# Altium schematic symbol library vAnalog.SCHLIB: 150 symbols
Pins are listed as number, name and electrical type; pins without a type are passive.

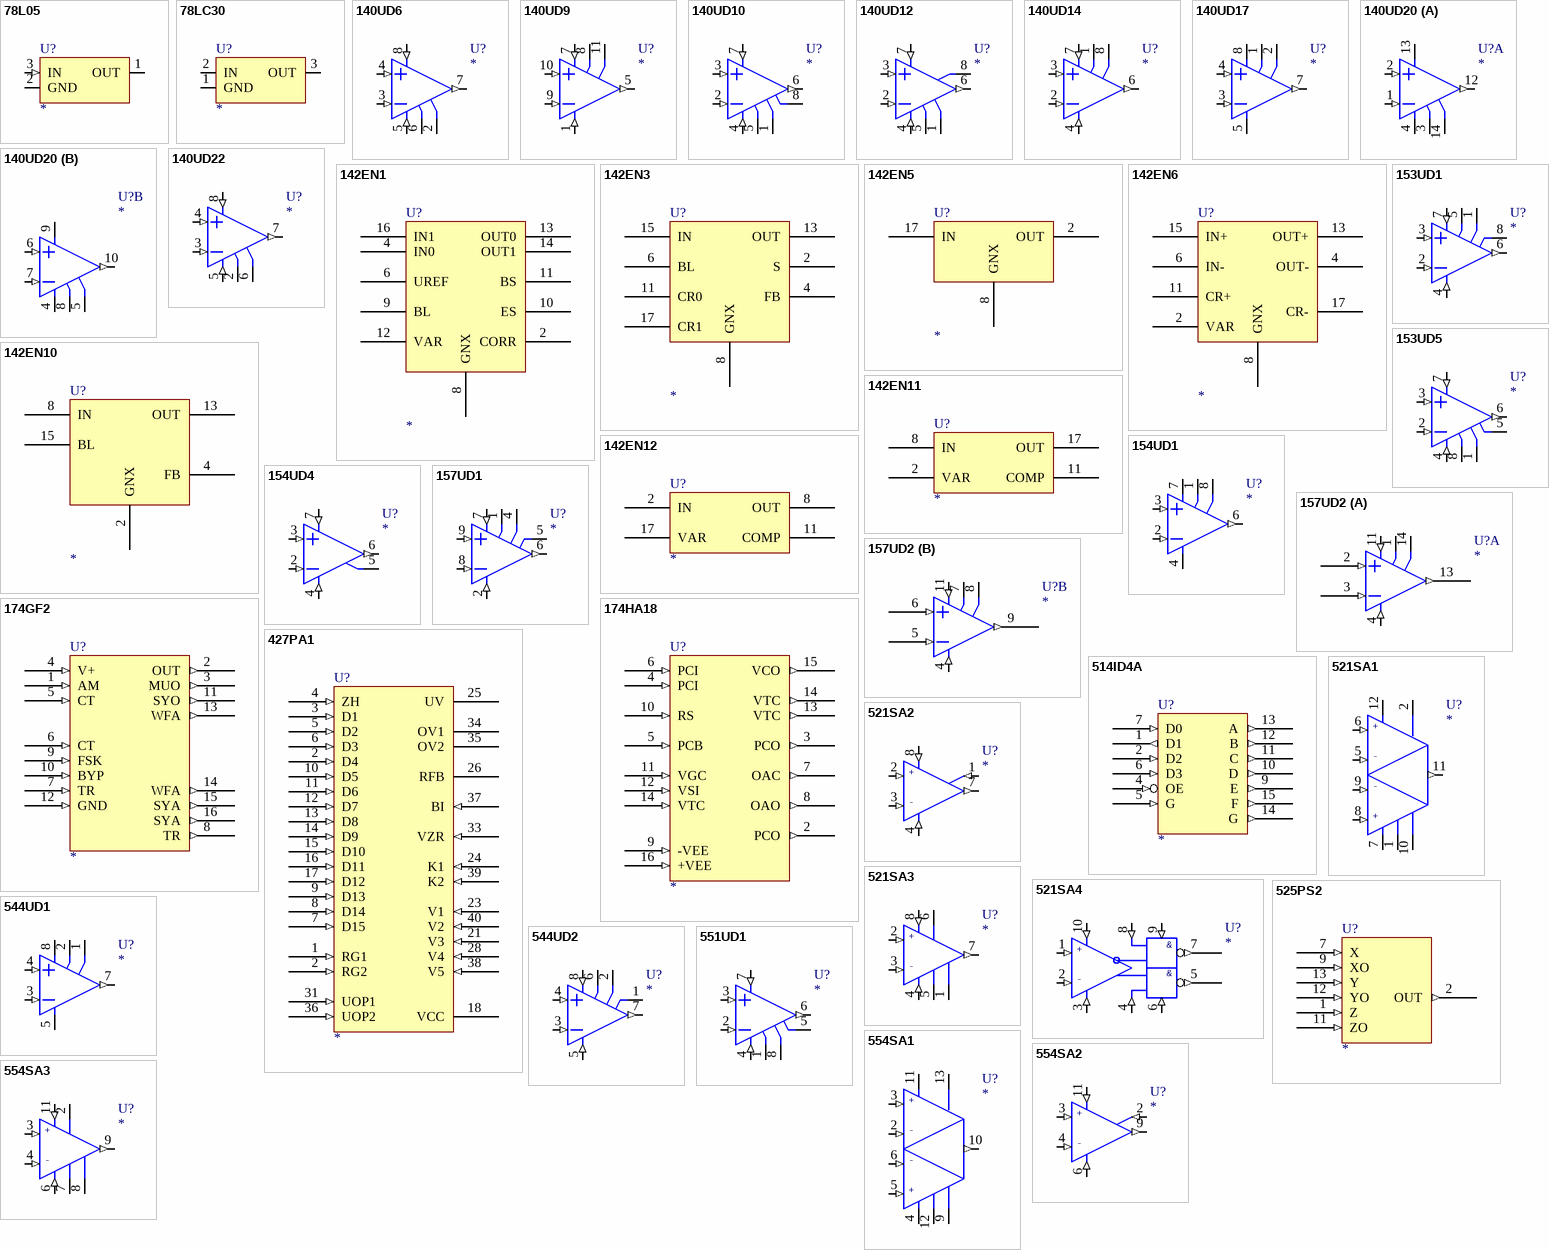
[diagram p0: symbols 78L05 to 554SA3]

## 78L05
designator U?
Text Field1: 60; Text Field2: 30
pins: 1 OUT, 2 GND (io), 3 IN (in)

## 78LC30
designator U?
Text Field1: 60; Text Field2: 30
pins: 1 GND, 2 IN, 3 OUT

## 140UD6
designator U?
Text Field1: 40; Text Field2: 40
pins: 2 BALANCE, 3 IN- (in), 4 IN+ (in), 5 E- (in), 6 BALANCE, 7 OUT (out), 8 E+ (in)

## 140UD9
designator U?
Text Field1: 40; Text Field2: 40
pins: 1 E- (in), 5 OUTPUT (out), 7 E+ (in), 8 COMPENSATION 1, 9 -INPUT (in), 10 +INPUT (in), 11 COMPENSATION 2

## 140UD10
designator U?
Text Field1: 40; Text Field2: 40
pins: 1 BAL/COMP, 2 -INPUT (in), 3 +INPUT (in), 4 E- (in), 5 BALANCE, 6 OUTPUT (out), 7 E+ (in), 8 COMPENS

## 140UD12
designator U?
Text Field1: 40; Text Field2: 40
pins: 1 BALANCE2, 2 -IN (in), 3 +IN (in), 4 E- (in), 5 BALANCE1, 6 OUT (out), 7 E+ (in), 8 I0

## 140UD14
designator U?
Text Field1: 40; Text Field2: 40
pins: 1 BALANCE1, 2 -IN (in), 3 +IN (in), 4 E- (in), 6 OUT (out), 7 E+ (in), 8 BALANCE2

## 140UD17
designator U?
Text Field1: 40; Text Field2: 40
pins: 1 BALANCE1, 2 BALANCE2, 3 -INPUT (in), 4 +INPUT (in), 5 E-, 7 OUTPUT (out), 8 E+

## 140UD20
designator U?
Text Field1: 40; Text Field2: 40
part A pins: 1 -INPUT (in), 2 +INPUT (in), 3 BALANCE1, 4 E-, 12 OUTPUT (out), 13 E+, 14 BALANCE2
part B pins: 4 E-, 5 BALANCE2, 6 +INPUT (in), 7 -INPUT (in), 8 BALANCE1, 9 E+, 10 OUTPUT (out)

## 140UD22
designator U?
Text Field1: 40; Text Field2: 40
pins: 2 BALANCE1, 3 -INPUT (in), 4 +INPUT (in), 5 E- (in), 6 BALANCE2, 7 OUTPUT (out), 8 E+ (in)

## 142EN1
designator U?
Text Field1: 80; Text Field2: 100
pins: 2 CORR, 4 IN0, 6 UREF, 8 GNX, 9 BL, 10 ES, 11 BS, 12 VAR, 13 OUT0, 14 OUT1, 16 IN1

## 142EN3
designator U?
Text Field1: 80; Text Field2: 80
pins: 2 S, 4 FB, 6 BL, 8 GNX, 11 CR0, 13 OUT, 15 IN, 17 CR1

## 142EN5
designator U?
Text Field1: 80; Text Field2: 40
pins: 2 OUT, 8 GNX, 17 IN

## 142EN6
designator U?
Text Field1: 80; Text Field2: 80
pins: 2 VAR, 4 OUT-, 6 IN-, 8 GNX, 11 CR+, 13 OUT+, 15 IN+, 17 CR-

## 142EN10
designator U?
Text Field1: 80; Text Field2: 70
pins: 2 GNX, 4 FB, 8 IN, 13 OUT, 15 BL

## 142EN11
designator U?
Text Field1: 80; Text Field2: 40
pins: 2 VAR, 8 IN, 11 COMP, 17 OUT

## 142EN12
designator U?
Text Field1: 80; Text Field2: 40
pins: 2 IN, 8 OUT, 11 COMP, 17 VAR

## 153UD1
designator U?
Text Field1: 40; Text Field2: 40
pins: 1 BAL/CORR, 2 IN- (in), 3 IN+ (in), 4 E- (in), 5 BALANCE, 6 OUT (out), 7 E+ (in), 8 CORR

## 153UD5
designator U?
Text Field1: 40; Text Field2: 40
pins: 1 BAL/CORR, 2 IN- (in), 3 IN+ (in), 4 E- (in), 5 CORR, 6 OUT (out), 7 E+ (in), 8 BALANCE

## 154UD1
designator U?
Text Field1: 40; Text Field2: 40
pins: 1 BALANCE1, 2 IN- (in), 3 IN+ (in), 4 E-, 6 OUT (out), 7 E+, 8 BALANCE2

## 154UD4
designator U?
Text Field1: 40; Text Field2: 40
pins: 2 IN- (in), 3 IN+ (in), 4 E- (in), 5 CORR, 6 OUT (out), 7 E+ (in)

## 157UD1
designator U?
Text Field1: 40; Text Field2: 40
pins: 1 CORR1, 2 E- (in), 4 CORR2, 5 CORR3, 6 OUT (out), 7 E+ (in), 8 IN- (in), 9 IN+ (in)

## 157UD2
designator U?
Text Field1: 40; Text Field2: 40
part A pins: 1 COMPENSATION 1, 2 +INPUT (in), 3 -INPUT (in), 4 E- (in), 11 E+ (in), 13 OUTPUT (out), 14 COMPENSATION 2
part B pins: 4 E- (in), 5 -INPUT (in), 6 +INPUT (in), 7 COMPENSATION 1, 8 COMPENSATION 2, 9 OUTPUT (out), 11 E+ (in)

## 174GF2
designator U?
Text Field1: 80; Text Field2: 130
pins: 1 AM (in), 2 OUT (out), 3 MUO (out), 4 V+ (in), 5 CT (in), 6 CT (in), 7 TR (in), 8 TR (out), 9 FSK (in), 10 BYP (in), 11 SYO (out), 12 GND (in), 13 WFA (out), 14 WFA (out), 15 SYA (out), 16 SYA (out)

## 174HA18
designator U?
Text Field1: 80; Text Field2: 150
pins: 2 PCO (out), 3 PCO (out), 4 PCI (in), 5 PCB (in), 6 PCI (in), 7 OAC (out), 8 OAO (out), 9 -VEE (in), 10 RS (in), 11 VGC (in), 12 VSI (in), 13 VTC (out), 14 VTC (in), 14 VTC (out), 15 VCO (out), 16 +VEE (in)

## 427PA1
designator U?
Text Field1: 80; Text Field2: 230
pins: 1 RG1 (in), 2 D4 (in), 2 RG2 (in), 3 D1 (in), 4 ZH (in), 5 D2 (in), 6 D3 (in), 7 D15 (in), 8 D14 (in), 9 D13 (in), 10 D5 (in), 11 D6 (in), 12 D7 (in), 13 D8 (in), 14 D9 (in), 15 D10 (in), 16 D11 (in), 17 D12 (in), 18 VCC, 20 GND (power) hidden to GND, 21 V3 (in), 23 V1 (in), 24 K1 (in), 25 UV, 26 RFB, 28 V4 (in), 31 UOP1 (in), 33 VZR (in), 34 OV1, 35 OV2, 36 UOP2 (in), 37 BI (in), 38 V5 (in), 39 K2 (in), 40 V2 (in)

## 514ID4A
designator U?
Text Field1: 60; Text Field2: 80
pins: 1 D1 (out), 2 D2 (in), 4 OE (in), 5 G (in), 6 D3 (in), 7 D0 (in), 9 E (out), 10 D (out), 11 C (out), 12 B (out), 13 A (out), 14 G (out), 15 F (out)

## 521SA1
designator U?
Text Field1: 40; Text Field2: 80
pins: 1 GND, 2 STROBE 1, 5 MINUS IN 1 (in), 6 PLUS IN 1 (in), 7 E-, 8 PLUS IN 2 (in), 9 MINUS IN 2 (in), 10 STROBE 2, 11 OUTPUT (out), 12 E+
text: +; -

## 521SA2
designator U?
Text Field1: 40; Text Field2: 40
pins: 1 GND (in), 2 +INPUT (in), 3 -INPUT (in), 4 E- (in), 7 OUTPUT (out), 8 E+ (in)
text: +; -

## 521SA3
designator U?
Text Field1: 40; Text Field2: 40
pins: 1 EMITTER, 2 +INPUT (in), 3 -INPUT (in), 4 E- (in), 5 BALANCE, 6 BAL/STROBE, 7 OUTPUT (out), 8 E+ (in)
text: +; -

## 521SA4
designator U?
Text Field1: 70; Text Field2: 40
pins: 1 +INPUT (in), 2 -INPUT (in), 3 E- (in), 4 STR2 (in), 5 OUT INV (out), 6 GND (in), 7 OUT (out), 8 STR1 (in), 9 E3 (in), 10 E+ (in)
text: +; &; -

## 525PS2
designator U?
Text Field1: 60; Text Field2: 70
pins: 1 Z (in), 2 OUT (out), 3 E- (power) hidden to E-, 7 X (in), 9 XO (in), 10 GND (power) hidden to GND, 11 ZO (in), 12 YO (in), 13 Y (in), 14 E+ (power) hidden to E+

## 544UD1
designator U?
Text Field1: 40; Text Field2: 40
pins: 1 BALANCE, 2 BALANCE, 3 IN- (in), 4 IN+ (in), 5 E-, 7 OUT (out), 8 E+

## 544UD2
designator U?
Text Field1: 40; Text Field2: 40
pins: 1 CORR, 2 BAL/CORR, 3 IN- (in), 4 IN+ (in), 5 E- (in), 6 BALANCE, 7 OUT (out), 8 E+ (in)

## 551UD1
designator U?
Text Field1: 40; Text Field2: 40
pins: 1 BALANCE, 2 IN- (in), 3 IN+ (in), 4 E- (in), 5 CORR, 6 OUT (out), 7 E+ (in), 8 BAL/CORR

## 554SA1
designator U?
Text Field1: 40; Text Field2: 80
pins: 2 MINUS IN 1 (in), 3 PLUS IN 1 (in), 4 E-, 5 PLUS IN 2 (in), 6 MINUS IN 2 (in), 9 STROBE 2, 10 OUTPUT (out), 11 E+, 12 GND, 13 STROBE 1
text: +; -

## 554SA2
designator U?
Text Field1: 40; Text Field2: 40
pins: 2 GND (in), 3 +INPUT (in), 4 -INPUT (in), 6 E- (in), 9 OUTPUT (out), 11 E+ (in)
text: +; -

## 554SA3
designator U?
Text Field1: 40; Text Field2: 40
pins: 2 EMITTER, 3 +INPUT (in), 4 -INPUT (in), 6 E- (in), 7 BALANCE1, 8 BALANCE2, 9 OUTPUT (out), 11 E+ (in)
text: +; -

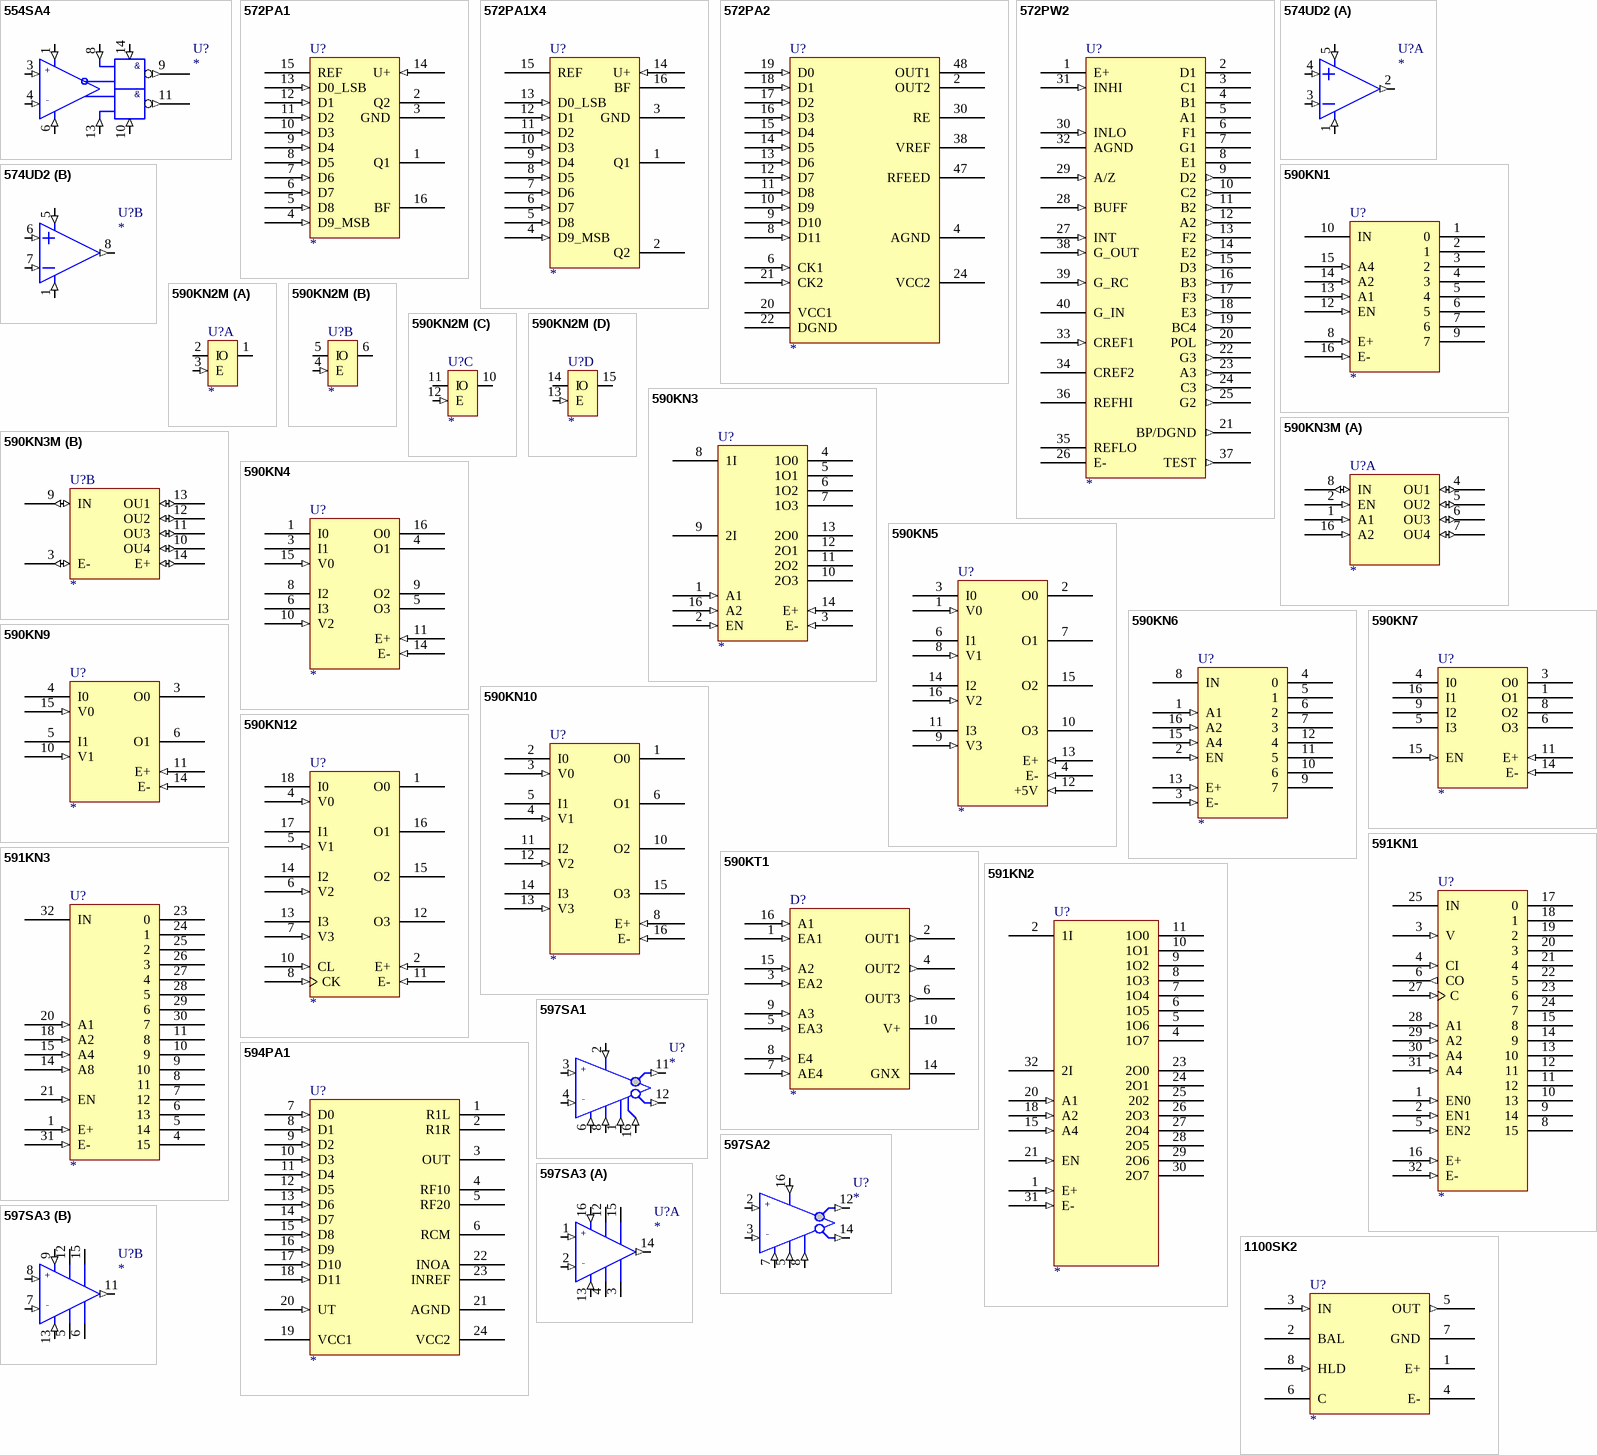
[diagram p1: symbols 554SA4 to 1100SK2]

## 554SA4
designator U?
Text Field1: 70; Text Field2: 40
pins: 1 E+ (in), 3 +INPUT (in), 4 -INPUT (in), 6 E- (in), 8 STR1 (in), 9 OUT (out), 10 GND (in), 11 OUT INV (out), 13 STR2 (in), 14 E3 (in)
text: +; &; -

## 572PA1
designator U?
Text Field1: 60; Text Field2: 120
pins: 1 Q1, 2 Q2, 3 GND, 4 D9_MSB (in), 5 D8 (in), 6 D7 (in), 7 D6 (in), 8 D5 (in), 9 D4 (in), 10 D3 (in), 11 D2 (in), 12 D1 (in), 13 D0_LSB (in), 14 U+ (in), 15 REF, 16 BF

## 572PA1X4
designator U?
Text Field1: 60; Text Field2: 140
pins: 1 Q1, 2 Q2, 3 GND, 4 D9_MSB (in), 5 D8 (in), 6 D7 (in), 7 D6 (in), 8 D5 (in), 9 D4 (in), 10 D3 (in), 11 D2 (in), 12 D1 (in), 13 D0_LSB (in), 14 U+ (in), 15 REF, 16 BF

## 572PA2
designator U?
Text Field1: 100; Text Field2: 190
pins: 2 OUT2, 4 AGND, 6 CK1 (in), 8 D11 (in), 9 D10 (in), 10 D9 (in), 11 D8 (in), 12 D7 (in), 13 D6 (in), 14 D5 (in), 15 D4 (in), 16 D3 (in), 17 D2 (in), 18 D1 (in), 19 D0 (in), 20 VCC1, 21 CK2 (in), 22 DGND, 24 VCC2, 30 RE, 38 VREF, 47 RFEED, 48 OUT1

## 572PW2
designator U?
Text Field1: 80; Text Field2: 280
pins: 1 E+, 2 D1 (oe), 3 C1 (oe), 4 B1 (oe), 5 A1 (oe), 6 F1 (oe), 7 G1 (oe), 8 E1 (oe), 9 D2 (out), 10 C2 (out), 11 B2 (out), 12 A2 (out), 13 F2 (out), 14 E2 (out), 15 D3 (out), 16 B3 (out), 17 F3 (out), 18 E3 (out), 19 BC4 (out), 20 POL (out), 21 BP/DGND (out), 22 G3 (out), 23 A3 (out), 24 C3 (out), 25 G2 (out), 26 E-, 27 INT (in), 28 BUFF (in), 29 A/Z (in), 30 INLO (in), 31 INHI (in), 32 AGND, 33 CREF1 (in), 34 CREF2, 35 REFLO, 36 REFHI, 37 TEST (out), 38 G_OUT (in), 39 G_RC (in), 40 G_IN

## 574UD2
designator U?
Text Field1: 40; Text Field2: 40
part A pins: 1 E- (in), 2 OUTPUT (out), 3 -INPUT (in), 4 +INPUT (in), 5 E+ (in)
part B pins: 1 E- (in), 5 E+ (in), 6 +INPUT (in), 7 -INPUT (in), 8 OUTPUT (out)

## 590KN1
designator U?
Text Field1: 60; Text Field2: 100
pins: 1 0, 2 1, 3 2, 4 3, 5 4, 6 5, 7 6, 8 E+ (in), 9 7, 10 IN, 12 EN (in), 13 A1 (in), 14 A2 (in), 15 A4 (in), 16 E- (in)

## 590KN2M
designator U?
Text Field1: 20; Text Field2: 30
part A pins: 1 O (io), 2 I (io), 3 E (in), 8 E+ (power) hidden to E+, 16 E- (power) hidden to E-
part B pins: 4 E (in), 5 I (io), 6 O (io), 8 E+ (power) hidden to E+, 16 E- (power) hidden to E-
part C pins: 8 E+ (power) hidden to E+, 10 O (io), 11 I (io), 12 E (in), 16 E- (power) hidden to E-
part D pins: 8 E+ (power) hidden to E+, 13 E (in), 14 I (io), 15 O (io), 16 E- (power) hidden to E-

## 590KN3
designator U?
Text Field1: 60; Text Field2: 130
pins: 1 A1 (in), 2 EN (in), 3 E- (in), 4 1O0, 5 1O1, 6 1O2, 7 1O3, 8 1I, 9 2I, 10 2O3, 11 2O2, 12 2O1, 13 2O0, 14 E+ (in), 15 GND (power) hidden to GND, 16 A2 (in)

## 590KN3M
designator U?
Text Field1: 60; Text Field2: 60
part A pins: 1 A1 (in), 2 EN (in), 4 OU1 (io), 5 OU2 (io), 6 OU3 (io), 7 OU4 (io), 8 IN (io), 15 GND (power) hidden to GND, 16 A2 (in)
part B pins: 3 E- (io), 9 IN (io), 10 OU4 (io), 11 OU3 (io), 12 OU2 (io), 13 OU1 (io), 14 E+ (io)

## 590KN4
designator U?
Text Field1: 60; Text Field2: 100
pins: 1 I0, 3 I1, 4 O1, 5 O3, 6 I3, 8 I2, 9 O2, 10 V2 (in), 11 E+ (in), 13 GND (power) hidden to GND, 14 E- (in), 15 V0 (in), 16 O0

## 590KN5
designator U?
Text Field1: 60; Text Field2: 150
pins: 1 V0 (in), 2 O0, 3 I0, 4 E- (in), 5 GND (power) hidden to GND, 6 I1, 7 O1, 8 V1 (in), 9 V3 (in), 10 O3, 11 I3, 12 +5V (in), 13 E+ (in), 14 I2, 15 O2, 16 V2 (in)

## 590KN6
designator U?
Text Field1: 60; Text Field2: 100
pins: 1 A1 (in), 2 EN (in), 3 E- (in), 4 0, 5 1, 6 2, 7 3, 8 IN, 9 7, 10 6, 11 5, 12 4, 13 E+ (in), 14 GND (power) hidden to GND, 15 A4 (in), 16 A2 (in)

## 590KN7
designator U?
Text Field1: 60; Text Field2: 80
pins: 1 O1, 3 O0, 4 I0, 5 I3, 6 O3, 8 O2, 9 I2, 11 E+ (in), 13 GND (power) hidden to GND, 14 E- (in), 15 EN (in), 16 I1

## 590KN9
designator U?
Text Field1: 60; Text Field2: 80
pins: 3 O0, 4 I0, 5 I1, 6 O1, 10 V1 (in), 11 E+ (in), 13 GND (power) hidden to GND, 14 E- (in), 15 V0 (in)

## 590KN10
designator U?
Text Field1: 60; Text Field2: 140
pins: 1 O0, 2 I0, 3 V0 (in), 4 V1 (in), 5 I1, 6 O1, 7 GND (power) hidden to GND, 8 E+ (in), 10 O2, 11 I2, 12 V2 (in), 13 V3 (in), 14 I3, 15 O3, 16 E- (in)

## 590KN12
designator U?
Text Field1: 60; Text Field2: 150
pins: 1 O0, 2 E+ (in), 3 GND (power) hidden to GND, 4 V0 (in), 5 V1 (in), 6 V2 (in), 7 V3 (in), 8 CK (in), 10 CL (in), 11 E- (in), 12 O3, 13 I3, 14 I2, 15 O2, 16 O1, 17 I1, 18 I0

## 590KT1
designator D?
Text Field1: 80; Text Field2: 120
pins: 1 EA1 (in), 2 OUT1 (out), 3 EA2 (in), 4 OUT2 (out), 5 EA3 (in), 6 OUT3 (out), 7 AE4 (in), 8 E4 (in), 9 A3 (in), 10 V+, 14 GNX, 15 A2 (in), 16 A1 (in)

## 591KN1
designator U?
Text Field1: 60; Text Field2: 200
pins: 1 EN0 (in), 2 EN1 (in), 3 V (in), 4 CI (in), 5 EN2 (in), 6 CO (out), 7 GND (power) hidden to GND, 8 15, 9 14, 10 13, 11 12, 12 11, 13 10, 14 9, 15 8, 16 E+ (in), 17 0, 18 1, 19 2, 20 3, 21 4, 22 5, 23 6, 24 7, 25 IN, 27 C (in), 28 A1 (in), 29 A2 (in), 30 A4 (in), 31 A4 (in), 32 E- (in)

## 591KN2
designator U?
Text Field1: 70; Text Field2: 230
pins: 1 E+ (in), 2 1I, 4 1O7, 5 1O6, 6 1O5, 7 1O4, 8 1O3, 9 1O2, 10 1O1, 11 1O0, 12 GND (power) hidden to GND, 15 A4 (in), 18 A2 (in), 20 A1 (in), 21 EN (in), 23 2O0, 24 2O1, 25 202, 26 2O3, 27 2O4, 28 2O5, 29 2O6, 30 2O7, 31 E- (in), 32 2I

## 591KN3
designator U?
Text Field1: 60; Text Field2: 170
pins: 1 E+ (in), 4 15, 5 14, 6 13, 7 12, 8 11, 9 10, 10 9, 11 8, 12 GND (power) hidden to GND, 14 A8 (in), 15 A4 (in), 18 A2 (in), 20 A1 (in), 21 EN (in), 23 0, 24 1, 25 2, 26 3, 27 4, 28 5, 29 6, 30 7, 31 E- (in), 32 IN

## 594PA1
designator U?
Text Field1: 100; Text Field2: 170
pins: 1 R1L, 2 R1R, 3 OUT, 4 RF10, 5 RF20, 6 RCM, 7 D0 (in), 8 D1 (in), 9 D2 (in), 10 D3 (in), 11 D4 (in), 12 D5 (in), 13 D6 (in), 14 D7 (in), 15 D8 (in), 16 D9 (in), 17 D10 (in), 18 D11 (in), 19 VCC1, 20 UT (in), 21 AGND, 22 INOA, 23 INREF, 24 VCC2

## 597SA1
designator U?
Text Field1: 50; Text Field2: 40
pins: 1 GND1 (in), 2 E+ (in), 3 +INPUT (in), 4 -INPUT (in), 6 STROBE (in), 8 E- (in), 11 OUT (out), 12 OUT INV (out), 16 GND2 (in)
text: +; -

## 597SA2
designator U?
Text Field1: 50; Text Field2: 40
pins: 2 +INPUT (in), 3 -INPUT (in), 5 E- (in), 7 STROBE (in), 8 GND (in), 12 OUT (out), 14 OUT INV (out), 16 E+ (in)
text: +; -

## 597SA3
designator U?
Text Field1: 40; Text Field2: 40
part A pins: 1 +INPUT (in), 2 -INPUT (in), 3 BALANCE1 (io), 4 BALANCE2 (io), 12 DGND (io), 13 E- (in), 14 OUTPUT (out), 15 STROBE (io), 16 E+ (in)
part B pins: 5 BALANCE2 (io), 6 BALANCE1 (io), 7 -INPUT (in), 8 +INPUT (in), 9 E+ (in), 11 OUTPUT (out), 12 DGND (io), 13 E- (in), 15 STROBE (io)
part A text: +; -
part B text: +; -

## 1100SK2
designator U?
Text Field1: 80; Text Field2: 80
pins: 1 E+, 2 BAL, 3 IN (in), 4 E-, 5 OUT (out), 6 C, 7 GND, 8 HLD (in)

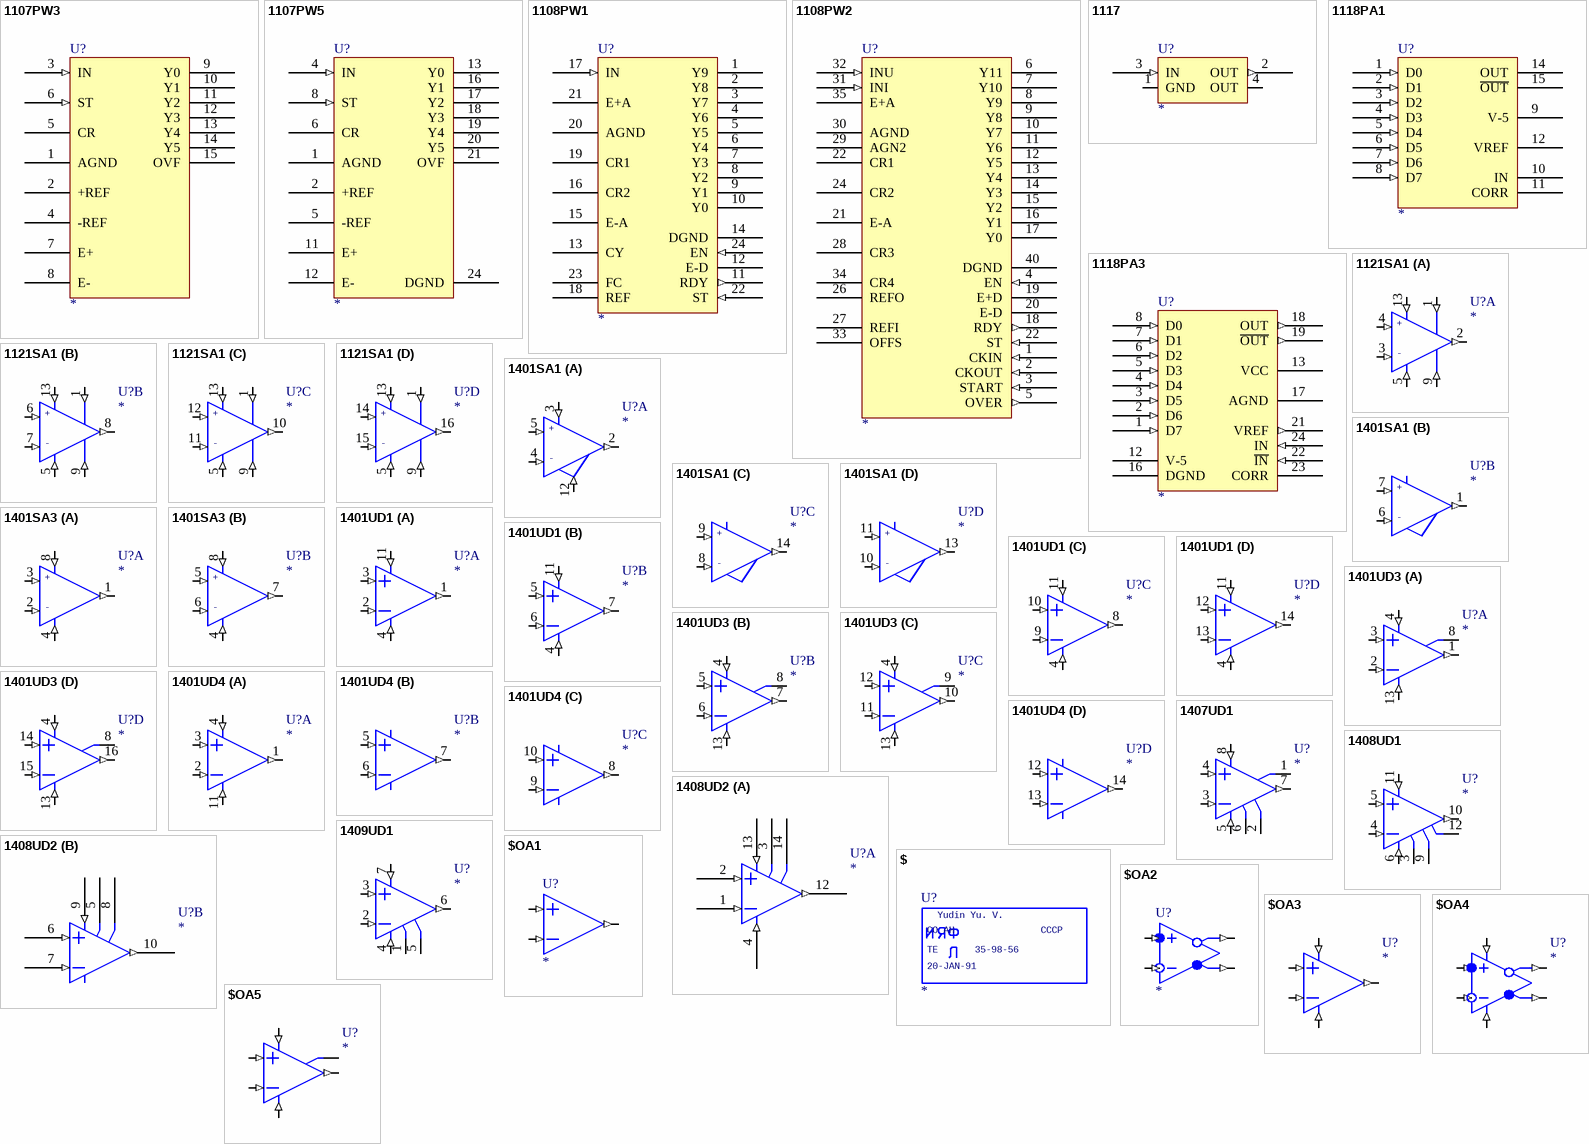
[diagram p2: symbols 1107PW3 to $OA5]

## 1107PW3
designator U?
Text Field1: 80; Text Field2: 160
pins: 1 AGND, 2 +REF, 3 IN (in), 4 -REF, 5 CR, 6 ST (in), 7 E+, 8 E-, 9 Y0 (oe), 10 Y1 (oe), 10 GND (power) hidden to GND, 11 Y2 (oe), 12 Y3 (oe), 13 Y4 (oe), 14 Y5 (oe), 15 OVF (oe)

## 1107PW5
designator U?
Text Field1: 80; Text Field2: 160
pins: 1 AGND, 2 +REF, 4 IN (in), 5 -REF, 6 CR, 8 ST (in), 11 E+, 12 E-, 13 Y0 (oe), 16 Y1 (oe), 17 Y2 (oe), 18 Y3 (oe), 19 Y4 (oe), 20 Y5 (oe), 21 OVF (oe), 24 DGND

## 1108PW1
designator U?
Text Field1: 80; Text Field2: 170
pins: 1 Y9 (hiz), 2 Y8 (hiz), 3 Y7 (hiz), 4 Y6 (hiz), 5 Y5 (hiz), 6 Y4 (hiz), 7 Y3 (hiz), 8 Y2 (hiz), 9 Y1 (hiz), 10 Y0 (hiz), 11 RDY (out), 12 E-D, 13 CY, 14 DGND, 15 E-A, 16 CR2, 17 IN (in), 18 REF, 19 CR1, 20 AGND, 21 E+A, 22 ST (in), 23 FC, 24 EN (in)

## 1108PW2
designator U?
Text Field1: 100; Text Field2: 240
pins: 1 CKIN (in), 2 CKOUT (in), 3 START (in), 4 EN (in), 5 OVER (out), 6 Y11 (hiz), 7 Y10 (hiz), 8 Y9 (hiz), 9 Y8 (hiz), 10 Y7 (hiz), 11 Y6 (hiz), 12 Y5 (hiz), 13 Y4 (hiz), 14 Y3 (hiz), 15 Y2 (hiz), 16 Y1 (hiz), 17 Y0 (hiz), 18 RDY (out), 19 E+D, 20 E-D, 21 E-A, 22 CR1, 22 ST (in), 24 CR2, 26 REFO, 27 REFI, 28 CR3, 29 AGN2, 30 AGND, 31 INI (in), 32 INU (in), 33 OFFS, 34 CR4, 35 E+A, 40 DGND

## 1117
designator U?
Text Field1: 60; Text Field2: 30
pins: 1 GND, 2 OUT (out), 3 IN (in), 4 OUT

## 1118PA1
designator U?
Text Field1: 80; Text Field2: 100
pins: 1 D0 (in), 2 D1 (in), 3 D2 (in), 4 D3 (in), 5 D4 (in), 6 D5 (in), 7 D6 (in), 8 D7 (in), 9 V-5, 10 IN, 11 CORR, 12 VREF, 14 OUT, 15 ~{OUT}, 16 GND (power) hidden to GND

## 1118PA3
designator U?
Text Field1: 80; Text Field2: 120
pins: 1 D7 (in), 2 D6 (in), 3 D5 (in), 4 D4 (in), 5 D3 (in), 6 D2 (in), 7 D1 (in), 8 D0 (in), 12 V-5, 13 VCC, 16 DGND, 17 AGND, 18 OUT (out), 19 ~{OUT} (out), 21 VREF (out), 22 ~{IN} (in), 23 CORR, 24 IN (in)

## 1121SA1
designator U?
Text Field1: 40; Text Field2: 40
part A pins: 1 E2+ (in), 2 OUTPUT (out), 3 -INPUT (in), 4 +INPUT (in), 5 E- (in), 9 GND (in), 13 E1+ (in)
part B pins: 1 E2+ (in), 5 E- (in), 6 +INPUT (in), 7 -INPUT (in), 8 OUTPUT (out), 9 GND (in), 13 E1+ (in)
part C pins: 1 E2+ (in), 5 E- (in), 9 GND (in), 10 OUTPUT (out), 11 -INPUT (in), 12 +INPUT (in), 13 E1+ (in)
part D pins: 1 E2+ (in), 5 E- (in), 9 GND (in), 13 E1+ (in), 14 +INPUT (in), 15 -INPUT (in), 16 OUTPUT (out)
part A text: +; -
part B text: +; -
part C text: +; -
part D text: +; -

## 1401SA1
designator U?
Text Field1: 40; Text Field2: 40
part A pins: 2 OUTPUT (out), 3 E+ (in), 4 -INPUT (in), 5 +INPUT (in), 12 E- (in)
part B pins: 1 OUTPUT (out), 6 -INPUT (in), 7 +INPUT (in)
part C pins: 8 -INPUT (in), 9 +INPUT (in), 14 OUTPUT (out)
part D pins: 10 -INPUT (in), 11 +INPUT (in), 13 OUTPUT (out)
part A text: +; -
part B text: +; -
part C text: +; -
part D text: +; -

## 1401SA3
designator U?
Text Field1: 40; Text Field2: 40
part A pins: 1 OUTPUT (out), 2 -INPUT (in), 3 +INPUT (in), 4 E- (in), 8 E+ (in)
part B pins: 4 E- (in), 5 +INPUT (in), 6 -INPUT (in), 7 OUTPUT (out), 8 E+ (in)
part A text: +; -
part B text: +; -

## 1401UD1
designator U?
Text Field1: 40; Text Field2: 40
part A pins: 1 OUTPUT (out), 2 -INPUT (in), 3 +INPUT (in), 4 E- (in), 11 E+ (in)
part B pins: 4 E- (in), 5 +INPUT (in), 6 -INPUT (in), 7 OUTPUT (out), 11 E+ (in)
part C pins: 4 E- (in), 8 OUTPUT (out), 9 -INPUT (in), 10 +INPUT (in), 11 E+ (in)
part D pins: 4 E- (in), 11 E+ (in), 12 +INPUT (in), 13 -INPUT (in), 14 OUTPUT (out)

## 1401UD3
designator U?
Text Field1: 40; Text Field2: 40
part A pins: 1 OUTPUT (out), 2 -INPUT (in), 3 +INPUT (in), 4 E+ (in), 8 I0, 13 E- (in)
part B pins: 4 E+ (in), 5 +INPUT (in), 6 -INPUT (in), 7 OUTPUT (out), 8 I0, 13 E- (in)
part C pins: 4 E+ (in), 9 I0, 10 OUTPUT (out), 11 -INPUT (in), 12 +INPUT (in), 13 E- (in)
part D pins: 4 E+ (in), 8 I0, 13 E- (in), 14 +INPUT (in), 15 -INPUT (in), 16 OUTPUT (out)

## 1401UD4
designator U?
Text Field1: 40; Text Field2: 40
part A pins: 1 OUTPUT (out), 2 -INPUT (in), 3 +INPUT (in), 4 E+ (in), 11 E- (in)
part B pins: 5 +INPUT (in), 6 -INPUT (in), 7 OUTPUT (out)
part C pins: 8 OUTPUT (out), 9 -INPUT (in), 10 +INPUT (in)
part D pins: 12 +INPUT (in), 13 -INPUT (in), 14 OUTPUT (out)

## 1407UD1
designator U?
Text Field1: 40; Text Field2: 40
pins: 1 I0, 2 BALANCE, 3 -INPUT (in), 4 +INPUT (in), 5 E- (in), 6 BALANCE, 7 OUTPUT (out), 8 E+ (in)

## 1408UD1
designator U?
Text Field1: 40; Text Field2: 40
pins: 3 BALANCE1, 4 -IN (in), 5 +IN (in), 6 E- (in), 9 BALANCE2, 10 OUT (out), 11 E+ (in), 12 COMPENS

## 1408UD2
designator U?
Text Field1: 40; Text Field2: 40
part A pins: 1 -IN (in), 2 +IN (in), 3 ON, 4 E- (in), 12 OUT (out), 13 E+ (in), 14 ON
part B pins: 5 ON, 6 +IN (in), 7 -IN (in), 8 ON, 9 E+ (in), 10 OUT (out)

## 1409UD1
designator U?
Text Field1: 40; Text Field2: 40
pins: 1 BALANCE, 2 IN- (in), 3 IN+ (in), 4 E- (in), 5 BALANCE, 6 OUT (out), 7 E+ (in)

## $
designator U?
Text Field1: 110; Text Field2: 50
text: Yudin Yu. V.; CO AH; CCCP; TE; 35-98-56; 20-JAN-91

## $OA1
designator U?
Text Field1: 40; Text Field2: 40
pins: ?1 +IN (in), ?2 -IN (in), ?3 OUT (out)

## $OA2
designator U?
Text Field1: 40; Text Field2: 40
pins: ?1 -IN (in), ?2 +IN (in), ?3 +OUT (out), ?4 -OUT (out)

## $OA3
designator U?
Text Field1: 40; Text Field2: 40
pins: +IN (in), -IN (in), ?1 E+ (in), ?2 E- (in), OUTPUT (out)

## $OA4
designator U?
Text Field1: 40; Text Field2: 40
pins: ?1 +IN (in), ?2 -IN (in), ?3 +OUT (out), ?4 -OUT (out), ?5 E+ (in), ?6 E- (in)

## $OA5
designator U?
Text Field1: 40; Text Field2: 40
pins: ?1 +IN (in), ?2 OUT (out), ?3 CORR, ?4 E+ (in), ?5 E- (in), \ -IN (in)

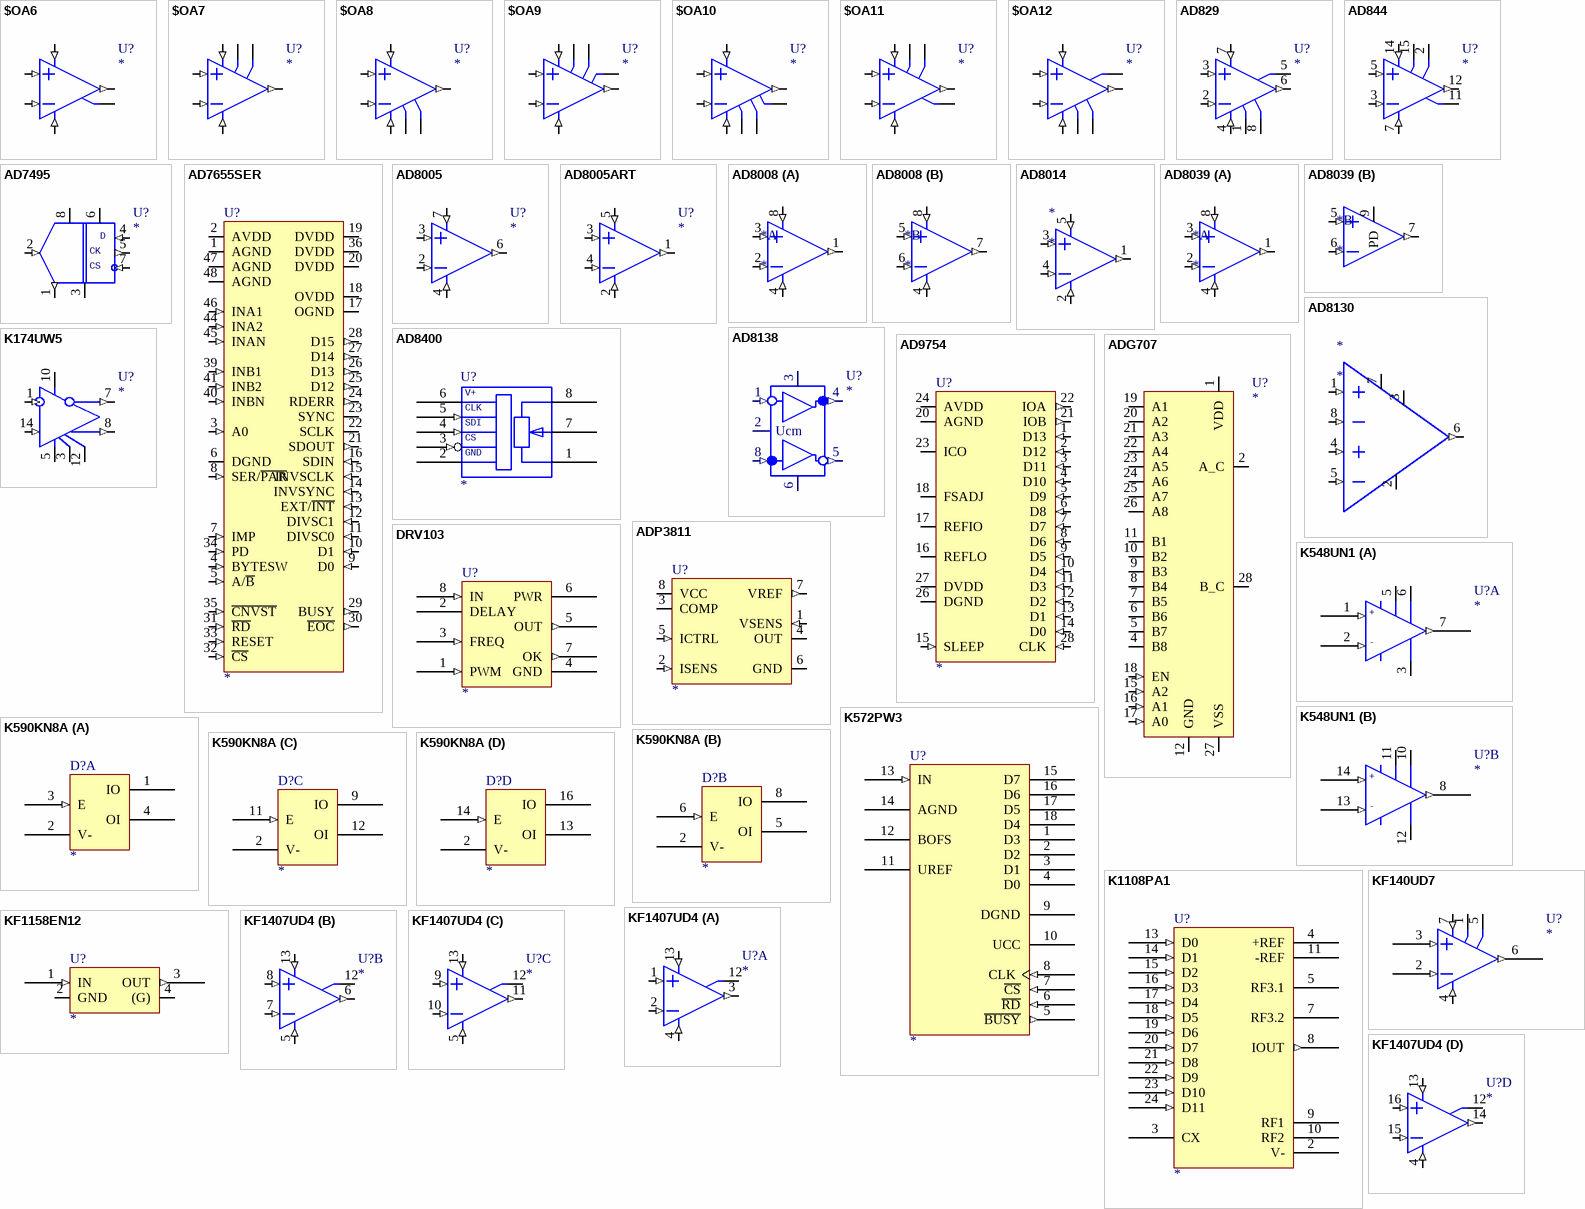
[diagram p3: symbols $OA6 to KF1407UD4]

## $OA6
designator U?
Text Field1: 40; Text Field2: 40
pins: ?1 +IN (in), ?2 -IN (in), ?3 OUT (out), ?4 CORR, ?5 E+ (in), ?6 E- (in)

## $OA7
designator U?
Text Field1: 40; Text Field2: 40
pins: ?1 +IN (in), ?2 -IN (in), ?3 OUT (out), ?4 BALANCE1, ?5 BALANCE2, ?6 E+ (in), ?7 E- (in)

## $OA8
designator U?
Text Field1: 40; Text Field2: 40
pins: ?1 +IN (in), ?2 -IN (in), ?3 OUT (out), ?4 BALANCE1, ?5 BALANCE2, ?6 E+ (in), ?7 E- (in)

## $OA9
designator U?
Text Field1: 40; Text Field2: 40
pins: +IN (in), -IN (in), BALANCE1, BALANCE2, CORR, E- (in), E- (in), OUT (out)

## $OA10
designator U?
Text Field1: 40; Text Field2: 40
pins: +E (in), +IN (in), -E (in), -IN (in), BALANCE1, BALANCE2, CORR, OUTPUT (out)

## $OA11
designator U?
Text Field1: 40; Text Field2: 40
pins: ?1 +IN (in), ?2 -IN (in), ?3 OUT (out), ?4 BALANCE2, ?5 BALANCE1, ?6 CORR, ?7 E+ (in), ?8 E- (in)

## $OA12
designator U?
Text Field1: 40; Text Field2: 40
pins: ?1 +IN (in), ?2 -IN (in), ?3 OUT (out), ?4 BALANCE1, ?5 BALANCE2, ?6 CORR, ?7 E+ (in), ?8 E- (in)

## AD829
designator U?
Text Field1: 40; Text Field2: 40
pins: 1 BALANCE1, 2 -IN (in), 3 +IN (in), 4 E- (in), 5 CORR, 6 OUT (out), 7 E+ (in), 8 BALANCE2

## AD844
designator U?
Text Field1: 40; Text Field2: 40
pins: 2 BALANCE2, 3 -IN (in), 5 +IN (in), 7 E- (in), 11 CORR, 12 OUT (out), 14 E+ (in), 15 BALANCE1

## AD7495
designator U?
Text Field1: 50; Text Field2: 40
pins: 1 REF_OUT (out), 2 IN (in), 3 GND, 4 SCLK (in), 5 SDATA (out), 6 V_DRIVE, 7 CS (in), 8 VDD
text: D; CK

## AD7655SER
designator U?
Text Field1: 80; Text Field2: 300
pins: 1 AGND, 2 AVDD, 3 A0 (in), 4 BYTESW (in), 5 A/~{B} (in), 6 DGND, 7 IMP (in), 8 SER/~{PAR} (in), 9 D0 (in), 10 D1 (in), 11 DIVSC0 (in), 12 DIVSC1 (in), 13 EXT/~{INT} (in), 14 INVSYNC (in), 15 INVSCLK (in), 16 SDIN (in), 17 OGND, 18 OVDD, 19 DVDD, 20 DVDD, 21 SDOUT (out), 22 SCLK, 23 SYNC, 24 RDERR (out), 25 D12 (out), 26 D13 (out), 27 D14 (out), 28 D15 (out), 29 BUSY (out), 30 ~{EOC} (out), 31 ~{RD} (in), 32 ~{CS} (in), 33 RESET (in), 34 PD (in), 35 ~{CNVST} (in), 36 DVDD, 39 INB1 (in), 40 INBN (in), 41 INB2 (in), 44 INA2 (in), 45 INAN (in), 46 INA1 (in), 47 AGND, 48 AGND

## AD8005
designator U?
Text Field1: 40; Text Field2: 40
footprint 8SO200
footprint SOT23-5
pins: 2 -IN (in), 3 +IN (in), 4 E- (in), 6 OUT (out), 7 E+ (in)

## AD8005ART
designator U?
Text Field1: 40; Text Field2: 40
footprint SOT23-5
pins: 1 OUT (out), 2 E- (in), 3 +IN (in), 4 -IN (in), 5 E+ (in)

## AD8008
designator *
footprint RM-8 (Shrink Small Outline, MSOP; 8 Leads; Body Width 3 mm; Pitch 0.65 mm)
footprint R-8_N (8-Pin Narrow Body Small Outline Integrated Circuit 1.27 mm Pitch, IPC Medium Density)
part A pins: 1 OUT (out), 2 -IN (in), 3 +IN (in), 4 E- (in), 8 E+ (in)
part B pins: 4 E- (in), 5 +IN (in), 6 -IN (in), 7 OUT (out), 8 E+ (in)

## AD8014
designator *
footprint SOT23-5 (SOT-23/SC-74A; 5 Leads; Body 3 x 3 mm, inc. leads (LxW max))
simulation model AD8014 (AD8014 SPICE model)
footprint RT-5 (SOT-23/SC-74A; 5 Leads; Body 3.1 x 3 mm, inc. leads (LxW max))
pins: 1 OUT (out), 2 E- (in), 3 +IN (in), 4 -IN (in), 5 E+ (in)

## AD8039
designator *
footprint RM-8 (Shrink Small Outline, MSOP; 8 Leads; Body Width 3 mm; Pitch 0.65 mm)
footprint R-8_N (8-Pin Narrow Body Small Outline Integrated Circuit 1.27 mm Pitch, IPC Medium Density)
part A pins: 1 OUT (out), 2 -IN (in), 3 +IN (in), 4 E- (in), 8 E+ (in)
part B pins: 5 +IN (in), 6 -IN (in), 7 OUT (out), 9 PD

## AD8130
designator *
pins: 1 +IN (in), 2 E- (power), 3 PD, 4 IN+ (in), 5 IN- (in), 6 OUT (out), 7 E+ (power), 8 -IN (in)

## AD8138
designator U?
footprint 8SO200
footprint uSO8
pins: 1 -In (in), 2 Ucm, 3 +U, 4 +Out (out), 5 -Out (out), 6 -U, 8 +In (in)

## AD8400
designator U?
Text Field1: 60; Text Field2: 60
pins: 1 B, 2 GND, 3 CS (in), 4 SDI (in), 5 CLK (in), 6 VCC, 7 W, 8 A
text: V+

## AD9754
designator U?
Text Field1: 80; Text Field2: 180
pins: 1 D13 (in), 2 D12 (in), 3 D11 (in), 4 D10 (in), 5 D9 (in), 6 D8 (in), 7 D7 (in), 8 D6 (in), 9 D5 (in), 10 D4 (in), 11 D3 (in), 12 D2 (in), 13 D1 (in), 14 D0 (in), 15 SLEEP (in), 16 REFLO, 17 REFIO, 18 FSADJ, 20 AGND, 21 IOB (out), 22 IOA (out), 23 ICO, 24 AVDD, 26 DGND, 27 DVDD, 28 CLK (in)

## ADG707
designator U?
Text Field1: 60; Text Field2: 230
pins: 1 VDD, 2 A_C, 4 B8, 5 B7, 6 B6, 7 B5, 8 B4, 9 B3, 10 B2, 11 B1, 12 GND, 15 A2 (in), 16 A1 (in), 17 A0 (in), 18 EN (in), 19 A1, 20 A2, 21 A3, 22 A4, 23 A5, 24 A6, 25 A7, 26 A8, 27 VSS, 28 B_C

## ADP3811
designator U?
Text Field1: 80; Text Field2: 70
pins: 1 VSENS (in), 2 ISENS (in), 3 COMP (io), 4 OUT (io), 5 ICTRL (in), 6 GND (io), 7 VREF (out), 8 VCC (io)

## DRV103
designator U?
Text Field1: 60; Text Field2: 70
pins: 1 PWM (in), 2 DELAY, 3 FREQ (in), 4 GND, 5 OUT (out), 6 PWR, 7 OK (out), 8 IN (in)

## K174UW5
designator U?
Text Field1: 40; Text Field2: 40
pins: 1 IN- (in), 3 GAIN1 (io), 5 -U (io), 7 OUT- (out), 8 OUT+ (out), 10 +U (io), 12 GAIN2 (io), 14 IN+ (in)

## K548UN1
designator U?
Text Field1: 40; Text Field2: 40
part A pins: 1 +IN (in), 2 -IN (in), 3 EMIT (io), 4 GND (power) hidden to GND, 5 CORR, 6 CORR, 7 OUT (out), 9 E+ (power) hidden to E+
part B pins: 4 GND (power) hidden to GND, 8 OUT (out), 9 E+ (power) hidden to E+, 10 CORR, 11 CORR, 12 EMIT (io), 13 -IN (in), 14 +IN (in)
part A text: +; -
part B text: +; -

## K572PW3
designator U?
Text Field1: 80; Text Field2: 180
pins: 1 D3 (hiz), 2 D2 (hiz), 3 D1 (hiz), 4 D0 (hiz), 5 ~{BUSY} (out), 6 ~{RD} (in), 7 ~{CS} (in), 8 CLK (in), 9 DGND, 10 UCC, 11 UREF, 12 BOFS, 13 IN (in), 14 AGND, 15 D7 (hiz), 16 D6 (hiz), 17 D5 (hiz), 18 D4 (hiz)

## K590KN8A
designator D?
Text Field1: 40; Text Field2: 50
part A pins: 1 IO, 2 V-, 3 E (in), 4 OI
part B pins: 2 V-, 5 OI, 6 E (in), 8 IO
part C pins: 2 V-, 9 IO, 11 E (in), 12 OI
part D pins: 2 V-, 13 OI, 14 E (in), 16 IO

## K1108PA1
designator U?
Text Field1: 80; Text Field2: 160
pins: 1 VCC (power) hidden to VCC, 2 V-, 3 CX, 4 +REF, 5 RF3.1, 6 GND (power) hidden to GND, 7 RF3.2, 8 IOUT (out), 9 RF1, 10 RF2, 11 -REF, 13 D0 (in), 14 D1 (in), 15 D2 (in), 16 D3 (in), 17 D4 (in), 18 D5 (in), 19 D6 (in), 20 D7 (in), 21 D8 (in), 22 D9 (in), 23 D10 (in), 24 D11 (in)

## KF140UD7
designator U?
Text Field1: 40; Text Field2: 40
pins: 1 BALANCE, 2 IN- (in), 3 IN+ (in), 4 E- (in), 5 BAL/CORR, 6 OUTPUT (out), 7 E+ (in)

## KF1158EN12
designator U?
Text Field1: 60; Text Field2: 30
pins: 1 IN (in), 2 GND, 3 OUT (out), 4 (G)

## KF1407UD4
designator U?
Text Field1: 40; Text Field2: 40
part A pins: 1 +INPUT (in), 2 -INPUT (in), 3 OUTPUT (out), 4 E- (in), 12 I0, 13 E+ (in)
part B pins: 5 E- (in), 6 OUTPUT (out), 7 -INPUT (in), 8 +INPUT (in), 12 I0, 13 E+ (in)
part C pins: 5 E- (in), 9 +INPUT (in), 10 -INPUT (in), 11 OUTPUT (out), 12 I0, 13 E+ (in)
part D pins: 4 E- (in), 12 I0, 13 E+ (in), 14 OUTPUT (out), 15 -INPUT (in), 16 +INPUT (in)

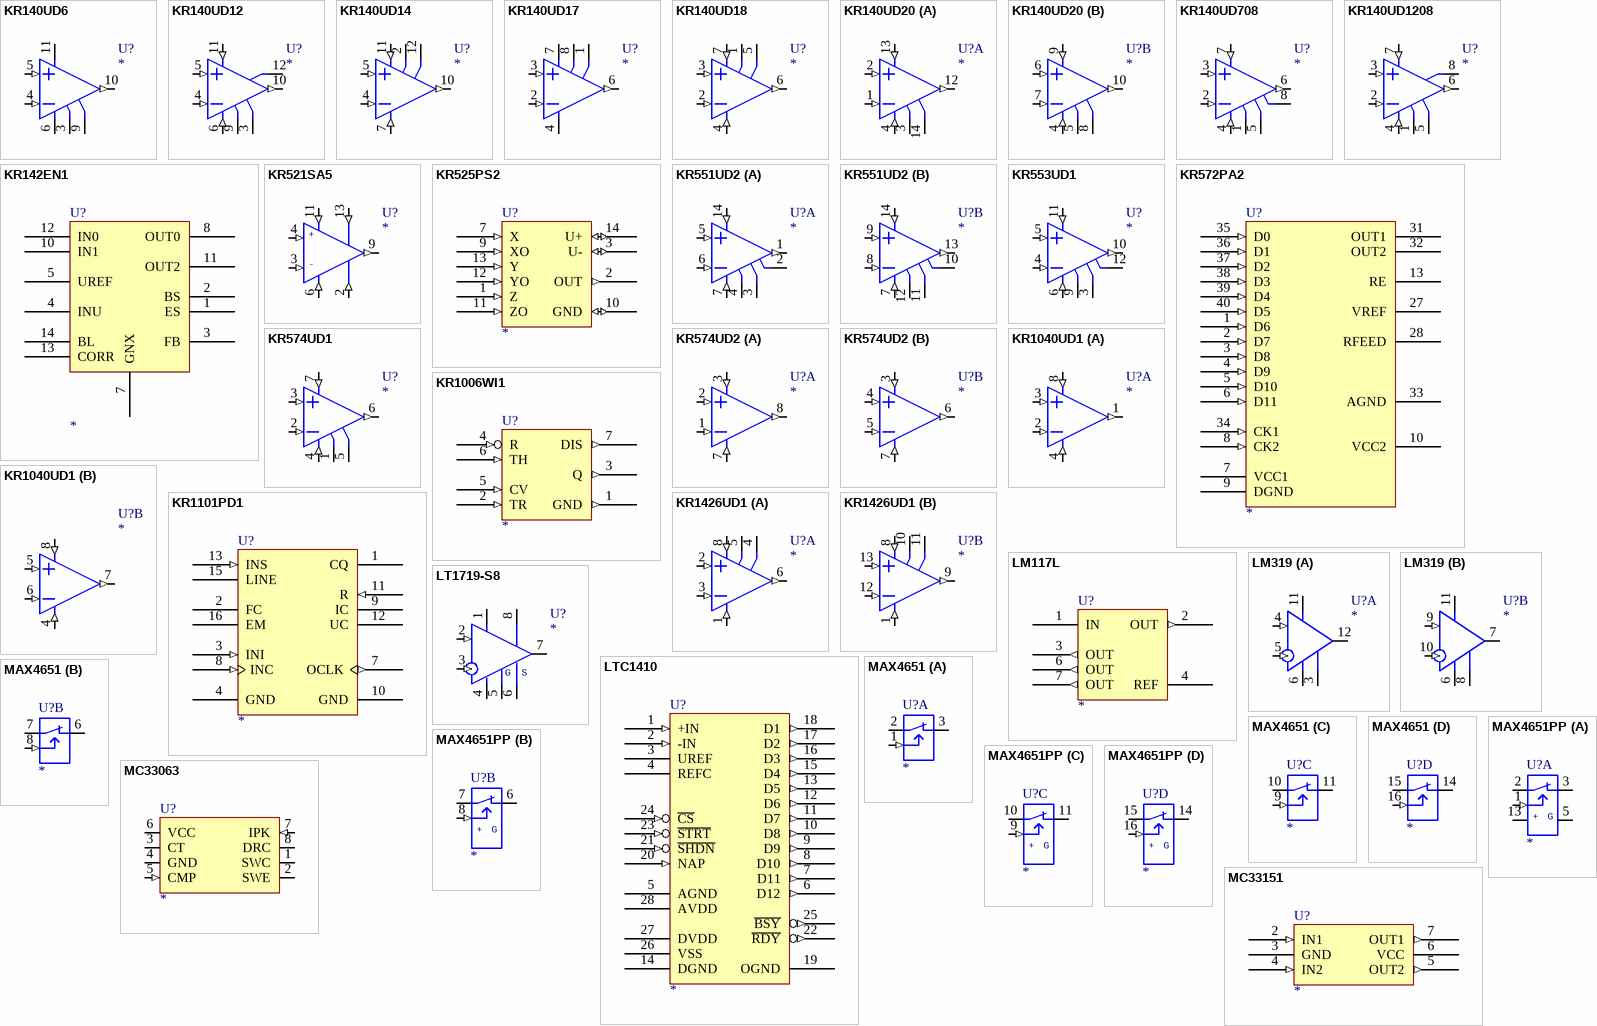
[diagram p4: symbols KR140UD6 to MC33151]

## KR140UD6
designator U?
Text Field1: 40; Text Field2: 40
pins: 3 BALANCE 1, 4 -INPUT (in), 5 +INPUT (in), 6 E-, 9 BALANCE 2, 10 OUTPUT (out), 11 E+

## KR140UD12
designator U?
Text Field1: 40; Text Field2: 40
pins: 3 BALANCE, 4 -INPUT (in), 5 +INPUT (in), 6 E- (in), 9 BALANCE, 10 OUTPUT (out), 11 E+ (in), 12 I0

## KR140UD14
designator U?
Text Field1: 40; Text Field2: 40
pins: 2 COMPENSATION 1, 4 -INPUT (in), 5 +INPUT (in), 7 E- (in), 10 OUTPUT (out), 11 E+ (in), 12 COMPENSATION 2

## KR140UD17
designator U?
Text Field1: 40; Text Field2: 40
pins: 1 BALANCE2, 2 -INPUT (in), 3 +INPUT (in), 4 E-, 6 OUTPUT (out), 7 E+, 8 BALANCE1

## KR140UD18
designator U?
Text Field1: 40; Text Field2: 40
pins: 1 BALANCE1, 2 -INPUT (in), 3 +INPUT (in), 4 E- (in), 5 BALANCE2, 6 OUTPUT (out), 7 E+ (in)

## KR140UD20
designator U?
Text Field1: 40; Text Field2: 40
part A pins: 1 -INPUT (in), 2 +INPUT (in), 3 BALANCE1, 4 E- (in), 12 OUTPUT (out), 13 E+ (in), 14 BALANCE2
part B pins: 4 E- (in), 5 BALANCE1, 6 +INPUT (in), 7 -INPUT (in), 8 BALANCE2, 9 E+ (in), 10 OUTPUT (out)

## KR140UD708
designator U?
Text Field1: 40; Text Field2: 40
pins: 1 BALANCE, 2 IN- (in), 3 IN+ (in), 4 E- (in), 5 BALANCE, 6 OUT (out), 7 E+ (in), 8 CORR

## KR140UD1208
designator U?
Text Field1: 40; Text Field2: 40
pins: 1 BALANCE1, 2 -IN (in), 3 +IN (in), 4 E- (in), 5 BALANCE2, 6 OUT (out), 7 E+ (in), 8 I0

## KR142EN1
designator U?
Text Field1: 80; Text Field2: 100
pins: 1 ES, 2 BS, 3 FB, 4 INU, 5 UREF, 7 GNX, 8 OUT0, 10 IN1, 11 OUT2, 12 IN0, 13 CORR, 14 BL

## KR521SA5
designator U?
Text Field1: 40; Text Field2: 40
pins: 2 GND (in), 3 -INPUT (in), 4 +INPUT (in), 6 E- (in), 9 OUTPUT (out), 11 E+ (in), 13 STROBE (in)
text: +; -

## KR525PS2
designator U?
Text Field1: 60; Text Field2: 70
pins: 1 Z (in), 2 OUT (out), 3 U- (io), 7 X (in), 9 XO (in), 10 GND (io), 11 ZO (in), 12 YO (in), 13 Y (in), 14 U+ (io)

## KR551UD2
designator U?
Text Field1: 40; Text Field2: 40
part A pins: 1 OUTPUT (out), 2 COMP1, 3 COMP2, 4 COMP3, 5 +INPUT (in), 6 -INPUT (in), 7 E- (in), 14 E+ (in)
part B pins: 7 E- (in), 8 -INPUT (in), 9 +INPUT (in), 10 COMP1, 11 COMP2, 12 COMP3, 13 OUTPUT (out), 14 E+ (in)

## KR553UD1
designator U?
Text Field1: 40; Text Field2: 40
pins: 3 BAL/COMP, 4 -INPUT (in), 5 +INPUT (in), 6 E- (in), 9 BALANCE, 10 OUTPUT (out), 11 E+ (in), 12 COMPENS

## KR572PA2
designator U?
Text Field1: 100; Text Field2: 190
pins: 1 D6 (in), 2 D7 (in), 3 D8 (in), 4 D9 (in), 5 D10 (in), 6 D11 (in), 7 VCC1, 8 CK2 (in), 9 DGND, 10 VCC2, 13 RE, 27 VREF, 28 RFEED, 31 OUT1, 32 OUT2, 33 AGND, 34 CK1 (in), 35 D0 (in), 36 D1 (in), 37 D2 (in), 38 D3 (in), 39 D4 (in), 40 D5 (in)

## KR574UD1
designator U?
Text Field1: 40; Text Field2: 40
pins: 1 BALANCE, 2 IN- (in), 3 IN+ (in), 4 E- (in), 5 BAL/CORR, 6 OUT (out), 7 E+ (in)

## KR574UD2
designator U?
Text Field1: 40; Text Field2: 40
part A pins: 1 -INPUT (in), 2 +INPUT (in), 3 E+ (in), 7 E- (in), 8 OUTPUT (out)
part B pins: 3 E+ (in), 4 +INPUT (in), 5 -INPUT (in), 6 OUTPUT (out), 7 E- (in)

## KR1006WI1
designator U?
Text Field1: 60; Text Field2: 60
pins: 1 GND (out), 2 TR (in), 3 Q (out), 4 R (in), 5 CV (in), 6 TH (in), 7 DIS (out), 8 VCC (power) hidden to VCC

## KR1040UD1
designator U?
Text Field1: 40; Text Field2: 40
footprint 8SO200
part A pins: 1 OUT (out), 2 -IN (in), 3 +IN (in), 4 E- (in), 8 E+ (in)
part B pins: 4 E- (in), 5 +IN (in), 6 -IN (in), 7 OUT (out), 8 E+ (in)

## KR1101PD1
designator U?
Text Field1: 80; Text Field2: 110
pins: 1 CQ, 2 FC, 3 INI (in), 4 GND, 7 OCLK (out), 8 INC (in), 9 IC, 10 GND, 11 R (in), 12 UC, 13 INS (in), 15 LINE, 16 EM (oe)

## KR1426UD1
designator U?
Text Field1: 40; Text Field2: 40
part A pins: 1 E- (in), 2 +INPUT (in), 3 -INPUT (in), 4 I0, 5 COMPENSATION, 6 OUTPUT (out), 8 E+ (in)
part B pins: 1 E- (in), 8 E+ (in), 9 OUTPUT (out), 10 COMPENSATION, 11 I0, 12 -INPUT (in), 13 +INPUT (in)

## LM117L
designator U?
Text Field1: 60; Text Field2: 60
pins: 1 IN, 2 OUT (out), 3 OUT (out), 4 REF, 6 OUT (out), 7 OUT (out)

## LM319
designator U?
Text Field1: 30; Text Field2: 40
part A pins: 3 GND, 4 IN+ (in), 5 IN- (in), 6 VEE, 11 VCC, 12 OUT (oc)
part B pins: 6 VEE, 7 OUT (oc), 8 GND, 9 IN+ (in), 10 IN- (in), 11 VCC

## LT1719-S8
designator U?
Text Field1: 40; Text Field2: 40
pins: 1 VCC, 2 IN+ (in), 3 IN- (in), 4 VEE, 5 GND, 6 SHDN, 7 OUT, 8 VDD
text: G; S

## LTC1410
designator U?
Text Field1: 80; Text Field2: 180
pins: 1 +IN (in), 2 -IN (in), 3 UREF, 4 REFC, 5 AGND, 6 D12 (out), 7 D11 (out), 8 D10 (out), 9 D9 (out), 10 D8 (out), 11 D7 (out), 12 D6 (out), 13 D5 (out), 14 DGND, 15 D4 (out), 16 D3 (out), 17 D2 (out), 18 D1 (out), 19 OGND, 20 NAP (in), 21 ~{SHDN} (in), 22 ~{RDY} (out), 23 ~{STRT} (in), 24 ~{CS} (in), 25 ~{BSY} (out), 26 VSS, 27 DVDD, 28 AVDD

## MAX4651
designator U?
Text Field1: 20; Text Field2: 30
part A pins: 1 CONTROL (in), 2 IN (io), 3 OUT (io), 5 GND (power) hidden to GND, 13 VCC (power) hidden to VCC
part B pins: 6 OUT (io), 7 IN (io), 8 CONTROL (in)
part C pins: 9 CONTROL (in), 10 IN (io), 11 OUT (io)
part D pins: 14 OUT (io), 15 IN (io), 16 CONTROL (in)

## MAX4651PP
designator U?
Text Field1: 20; Text Field2: 40
part A pins: 1 CONTROL (in), 2 IN (io), 3 OUT (io), 5 GND, 13 VCC
part B pins: 6 OUT (io), 7 IN (io), 8 CONTROL (in)
part C pins: 9 CONTROL (in), 10 IN (io), 11 OUT (io)
part D pins: 14 OUT (io), 15 IN (io), 16 CONTROL (in)
part A text: +; G
part B text: +; G
part C text: +; G
part D text: +; G

## MC33063
designator U?
Text Field1: 80; Text Field2: 50
pins: 1 SWC, 2 SWE, 3 CT (io), 4 GND, 5 CMP (in), 6 VCC, 7 IPK (in), 8 DRC (io)

## MC33151
designator U?
Text Field1: 80; Text Field2: 40
pins: 2 IN1 (in), 3 GND, 4 IN2 (in), 5 OUT2 (out), 6 VCC, 7 OUT1 (out)

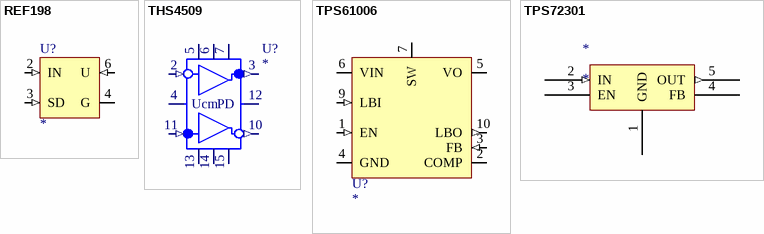
[diagram p5: symbols REF198 to TPS72301]

## REF198
designator U?
Text Field1: 40; Text Field2: 40
pins: 2 IN (in), 3 SD (in), 4 G, 6 U (in)

## THS4509
designator U?
footprint sPQFP16
pins: 2 In- (in), 3 Out+ (out), 4 Ucm, 5 +U, 6 +U, 7 +U, 8 +U hidden to +U, 9 Ucm hidden to Ucm, 10 Out- (out), 11 In+ (in), 12 PD, 13 -U, 14 -U, 15 -U, 16 -U hidden to -U

## TPS61006
designator U?
Text Field1: 80; Text Field2: 80
pins: 1 EN (in), 2 COMP (io), 3 FB (in), 4 GND (io), 5 VO (io), 6 VIN (io), 7 SW (io), 9 LBI (in), 10 LBO (out)

## TPS72301
designator *
footprint SOT23-5 (SOT-23/SC-74A; 5 Leads; Body 3 x 3 mm, inc. leads (LxW max))
pins: 1 GND, 2 IN (in), 3 EN, 4 FB, 5 OUT (out)